# EAGLE library part ZR_B7B-ZR (library CASE-JST)
JST ZR Connector, through hole, 7 pin, top entry Description: JST ZR connector with 1.5 mm pitch, through hole version, 7 pin, top entry. Links: Datasheet <http://www.jst-mfg.com/product/pdf/eng/eZH.pdf>
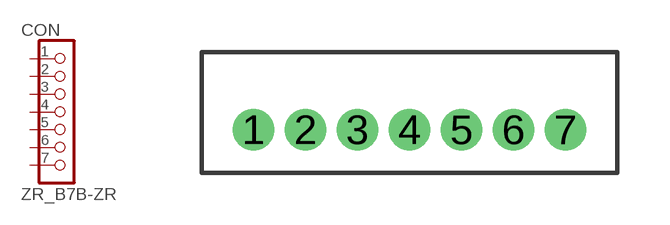
[diagram p6: symbol with the pads of B7B-ZR; footprint B7B-ZR]

Designator prefix CON

## ZR_B7B-ZR  [B7B-ZR]
1  1  pas
2  2  pas
3  3  pas
4  4  pas
5  5  pas
6  6  pas
7  7  pas

## Footprint B7B-ZR (pad centres in mm)
JST B7B-ZR Datasheet <http://www.jst-mfg.com/product/pdf/eng/eZH.pdf>
drill 0.7: 1 -4.5,0; 2 -3,0; 3 -1.5,0; 4 0,0; 5 1.5,0; 6 3,0; 7 4.5,0